# EAGLE library part TC1092E-01 (library Eagle-Lib)
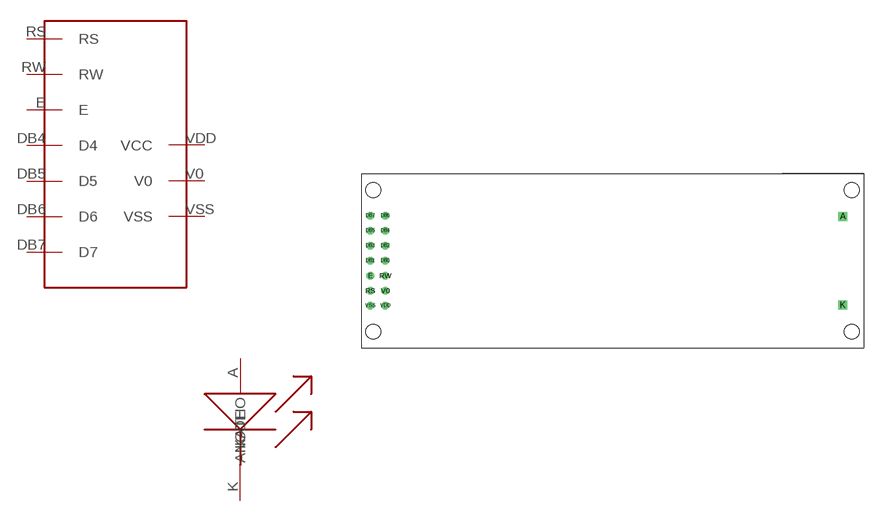
[diagram p5: symbol with the pads of TC1602E-01; footprint TC1602E-01]

Designator prefix -; gates G$1=BACKLIGHT G$2=LCD

## TC1092E-01  [TC1602E-01]
A  G$1:ANODE
DB4  G$2:D4
DB5  G$2:D5
DB6  G$2:D6
DB7  G$2:D7
E  G$2:E
K  G$1:KATHO
RS  G$2:RS
RW  G$2:RW
V0  G$2:V0
VDD  G$2:VCC
VSS  G$2:VSS

## Footprint TC1602E-01 (pad centres in mm)
drill 1 square: A 81.5,22.25; K 81.5,7.25
drill 0.8 octagon: DB0 4.04,14.75; DB1 1.5,14.75; DB2 4.04,17.29; DB3 1.5,17.29; DB4 4.04,19.83; DB5 1.5,19.83; DB6 4.04,22.37; DB7 1.5,22.37; E 1.5,12.21; RS 1.5,9.67; RW 4.04,12.21; V0 4.04,9.67; VDD 4.04,7.13; VSS 1.5,7.13
hole 2.5 at 83,2.75
hole 2.5 at 83,26.75
hole 2.5 at 2,2.75
hole 2.5 at 2,26.75